# Altium footprint library con-ptr500.PCBLIB: 34 footprints (part 2 of 3)
Each footprint in its own frame and in the unit in brackets; x right, y up, seen from the top. Pads: shape width x height; smd on the part's side, far side on the other; paste and mask are expansions set on the pad; w line width, h text height; cw(c..) or ccw(c..) is an arc to the next point about the centre after c.
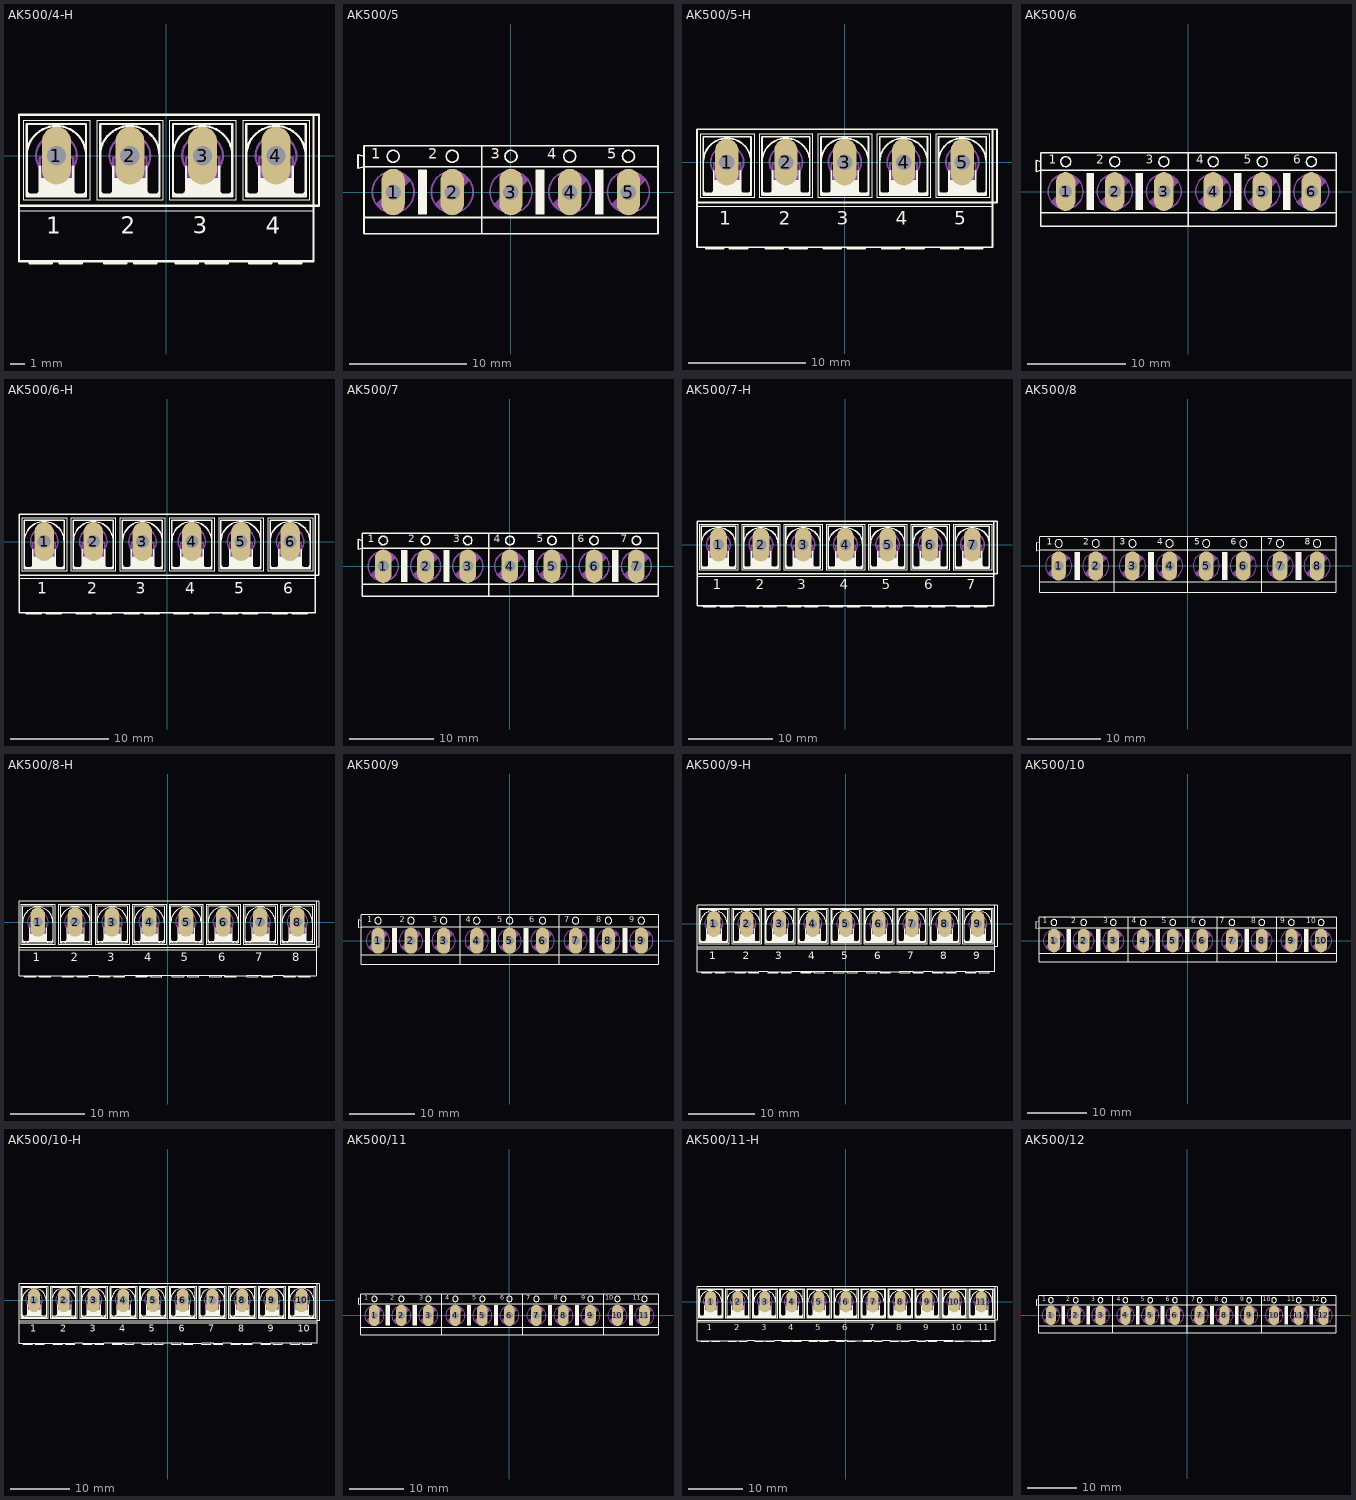
[diagram p1: the footprints below, top view; thin cyan lines are the x and y axes]

## AK500/4-H [mil]
pads (4):
  oval 78x156 hole 52: 1(-296,0) 2(-98,0) 3(98,0) 4(296,0)
Top Overlay:
  rectangle: -341,-105 -251,-60
  rectangle: -143,-105 -53,-60
  rectangle: 53,-105 143,-60
  rectangle: 251,-105 341,-60
  lines w2: -397,-150 397,-150 ; -386,-120 -386,95 -206,95 -206,-120 -386,-120 ; -188,-120 -8,-120 -8,95 -188,95 -188,-120 ; 8,-120 8,95 188,95 188,-120 8,-120 ; 206,-120 206,95 386,95 386,-120 206,-120
  lines w6: -376,-95 ccw(c-366,-95) -366,-105 -226,-105 ccw(c-226,-95) -216,-95 ; -376,0 cw(c-296,0) -216,0 ; -351,-105 ccw(c-351,-95) -341,-95 -341,-30 ; -251,-30 -251,-95 ccw(c-241,-95) -241,-105 ; -178,-95 ccw(c-168,-95) -168,-105 -28,-105 ccw(c-28,-95) -18,-95 ; -178,0 cw(c-98,0) -18,0 ; -153,-105 ccw(c-153,-95) -143,-95 -143,-30 ; -53,-30 -53,-95 ccw(c-43,-95) -43,-105 ; 18,-95 ccw(c28,-95) 28,-105 168,-105 ccw(c168,-95) 178,-95 ; 18,0 cw(c98,0) 178,0 ; 43,-105 ccw(c43,-95) 53,-95 53,-30 ; 143,-30 143,-95 ccw(c153,-95) 153,-105 ; 216,-95 ccw(c226,-95) 226,-105 366,-105 ccw(c366,-95) 376,-95 ; 216,0 cw(c296,0) 376,0 ; 241,-105 ccw(c241,-95) 251,-95 251,-30 ; 341,-30 341,-95 ccw(c351,-95) 351,-105 ; -397,-135 397,-135 ; -397,-135 -397,110 397,110 ; -397,-135 -397,-150 -397,-285 -368,-285 ; -368,-285 -368,-290 -308,-290 -308,-285 ; -368,-285 -308,-285 ; -308,-285 -288,-285 ; -288,-285 -228,-285 ; -288,-285 -288,-290 -228,-290 -228,-285 ; -228,-285 -167,-285 ; -167,-285 -167,-290 -107,-290 -107,-285 ; -167,-285 -107,-285 ; -107,-285 -87,-285 ; -87,-285 -87,-290 -27,-290 -27,-285 ; -87,-285 -27,-285 ; -27,-285 26,-285 ; 26,-285 26,-290 86,-290 86,-285 ; 26,-285 86,-285 ; 86,-285 106,-285 ; 106,-285 106,-290 166,-290 166,-285 ; 106,-285 166,-285 ; 166,-285 224,-285 ; 224,-285 224,-290 284,-290 284,-285 ; 224,-285 284,-285 ; 284,-285 304,-285 ; 304,-285 304,-290 364,-290 364,-285 ; 304,-285 364,-285 ; 364,-285 397,-285 397,-150 397,-135 ; 397,-135 397,110 ; 397,-135 412,-135 412,110 397,110 ; -376,-110 -216,-110 -216,85 -376,85 -376,-110 ; -178,-110 -178,85 -18,85 -18,-110 -178,-110 ; 18,-110 178,-110 178,85 18,85 18,-110 ; 216,-110 376,-110 376,85 216,85 216,-110
  text "1" at -323,-225 h77.5
  text "2" at -122,-225 h77.5
  text "3" at 71,-225 h77.5
  text "4" at 269,-225 h77.5
Mechanical 16:
  circle w6: c-296,0 r55
  circle w6: c-98,0 r55
  circle w6: c98,0 r55
  circle w6: c296,0 r55
  rectangle: -341,-60 -251,-30
  rectangle: -143,-60 -53,-30
  rectangle: 53,-60 143,-30
  rectangle: 251,-60 341,-30
  lines w6: -341,-30 -341,-5 -251,-5 -251,-30 -341,-30 ; -143,-30 -143,-5 -53,-5 -53,-30 -143,-30 ; 53,-30 53,-5 143,-5 143,-30 53,-30 ; 251,-30 251,-5 341,-5 341,-30 251,-30

## AK500/5 [mil]
pads (5):
  oval 78x156 hole 52: 1(-395,0) 2(-197,0) 3(0,0) 4(197,0) 5(394,0)
Top Overlay:
  circle w6: c-197,120 r20
  circle w6: c-395,120 r20
  circle w6: c197,120 r20
  circle w6: c0,120 r20
  circle w6: c394,120 r20
  rectangle: -311,-75 -281,75
  rectangle: 83,-75 113,75
  rectangle: 281,-75 311,75
  lines w6: -493,-85 -493,-140 -98,-140 ; -493,-85 -98,-85 ; -493,-85 -493,85 ; -493,85 -513,80 -513,125 -493,120 ; -493,85 -493,120 ; -493,85 -98,85 ; -493,120 -493,155 -98,155 ; -98,-140 -98,-85 ; -98,-140 493,-140 493,-85 ; -98,-85 493,-85 ; -98,-85 -98,85 ; -98,85 -98,155 ; -98,85 493,85 ; -98,155 493,155 493,85 ; 493,-85 493,85
  text "1" at -468,100 h60.45
  text "2" at -278,100 h60.45
  text "3" at -68,100 h60.45
  text "4" at 122,100 h60.45
  text "5" at 322,100 h60.45
Mechanical 16:
  circle w6: c-197,0 r70
  circle w6: c-395,0 r70
  circle w6: c197,0 r70
  circle w6: c0,0 r70
  circle w6: c394,0 r70
  lines w6: -450,-40 -355,55 -340,40 -435,-55 -450,-40 ; -252,-40 -157,55 -142,40 -237,-55 -252,-40 ; -55,-40 40,55 55,40 -40,-55 -55,-40 ; 142,-40 237,55 252,40 157,-55 142,-40 ; 339,-40 434,55 449,40 354,-55 339,-40
  lines w24: -435,-40 -355,40 ; -237,-40 -157,40 ; -40,-40 40,40 ; 157,-40 237,40 ; 354,-40 434,40

## AK500/5-H [mil]
pads (5):
  oval 78x156 hole 52: 1(-395,0) 2(-197,0) 3(0,0) 4(197,0) 5(394,0)
Top Overlay:
  rectangle: -439,-105 -349,-60
  rectangle: -242,-105 -152,-60
  rectangle: -45,-105 45,-60
  rectangle: 152,-105 242,-60
  rectangle: 349,-105 439,-60
  lines w2: -495,-150 495,-150 ; -484,-120 -484,95 -304,95 -304,-120 -484,-120 ; -287,-120 -107,-120 -107,95 -287,95 -287,-120 ; -90,-120 -90,95 90,95 90,-120 -90,-120 ; 107,-120 107,95 287,95 287,-120 107,-120 ; 304,-120 304,95 484,95 484,-120 304,-120
  lines w6: -474,-95 ccw(c-464,-95) -464,-105 -324,-105 ccw(c-324,-95) -314,-95 ; -474,0 cw(c-394,0) -314,0 ; -449,-105 ccw(c-449,-95) -439,-95 -439,-30 ; -349,-30 -349,-95 ccw(c-339,-95) -339,-105 ; -277,-95 ccw(c-267,-95) -267,-105 -127,-105 ccw(c-127,-95) -117,-95 ; -277,0 cw(c-197,0) -117,0 ; -252,-105 ccw(c-252,-95) -242,-95 -242,-30 ; -152,-30 -152,-95 ccw(c-142,-95) -142,-105 ; -80,-95 ccw(c-70,-95) -70,-105 70,-105 ccw(c70,-95) 80,-95 ; -80,0 cw(c0,0) 80,0 ; -55,-105 ccw(c-55,-95) -45,-95 -45,-30 ; 45,-30 45,-95 ccw(c55,-95) 55,-105 ; 72,-285 125,-285 ; 117,-95 ccw(c127,-95) 127,-105 267,-105 ccw(c267,-95) 277,-95 ; 117,0 cw(c197,0) 277,0 ; 142,-105 ccw(c142,-95) 152,-95 152,-30 ; 242,-30 242,-95 ccw(c252,-95) 252,-105 ; 314,-95 ccw(c324,-95) 324,-105 464,-105 ccw(c464,-95) 474,-95 ; 314,0 cw(c394,0) 474,0 ; 339,-105 ccw(c339,-95) 349,-95 349,-30 ; 439,-30 439,-95 ccw(c449,-95) 449,-105 ; -495,-135 495,-135 ; -495,-135 -495,110 495,110 ; -495,-135 -495,-150 -495,-285 -466,-285 ; -466,-285 -466,-290 -406,-290 -406,-285 ; -466,-285 -406,-285 ; -406,-285 -386,-285 ; -386,-285 -326,-285 ; -386,-285 -386,-290 -326,-290 -326,-285 ; -326,-285 -266,-285 ; -266,-285 -266,-290 -206,-290 -206,-285 ; -266,-285 -206,-285 ; -206,-285 -186,-285 ; -186,-285 -186,-290 -126,-290 -126,-285 ; -186,-285 -126,-285 ; -126,-285 -72,-285 ; -72,-285 -72,-290 -12,-290 -12,-285 ; -72,-285 -12,-285 ; -12,-285 8,-285 ; 8,-285 8,-290 68,-290 68,-285 ; 8,-285 68,-285 ; 68,-285 205,-285 ; 125,-285 125,-290 185,-290 185,-285 ; 125,-285 185,-285 ; 185,-285 205,-285 ; 205,-285 205,-290 265,-290 265,-285 ; 205,-285 265,-285 ; 265,-285 322,-285 ; 322,-285 322,-290 382,-290 382,-285 ; 322,-285 382,-285 ; 382,-285 402,-285 ; 402,-285 402,-290 462,-290 462,-285 ; 402,-285 462,-285 ; 462,-285 495,-285 495,-150 495,-135 ; 495,-135 495,110 ; 495,-135 510,-135 510,110 495,110 ; -474,-110 -314,-110 -314,85 -474,85 -474,-110 ; -277,-110 -277,85 -117,85 -117,-110 -277,-110 ; -80,-110 80,-110 80,85 -80,85 -80,-110 ; 117,-110 277,-110 277,85 117,85 117,-110 ; 314,-110 474,-110 474,85 314,85 314,-110
  text "1" at -421,-225 h77.5
  text "2" at -221,-225 h77.5
  text "3" at -27,-225 h77.5
  text "4" at 170,-225 h77.5
  text "5" at 367,-225 h77.5
Mechanical 16:
  circle w6: c-394,0 r55
  circle w6: c-197,0 r55
  circle w6: c0,0 r55
  circle w6: c197,0 r55
  circle w6: c394,0 r55
  rectangle: -439,-60 -349,-30
  rectangle: -242,-60 -152,-30
  rectangle: -45,-60 45,-30
  rectangle: 152,-60 242,-30
  rectangle: 349,-60 439,-30
  lines w6: -439,-30 -439,-5 -349,-5 -349,-30 -439,-30 ; -242,-30 -242,-5 -152,-5 -152,-30 -242,-30 ; -45,-30 -45,-5 45,-5 45,-30 -45,-30 ; 152,-30 152,-5 242,-5 242,-30 152,-30 ; 349,-30 349,-5 439,-5 439,-30 349,-30

## AK500/6 [mil]
pads (6):
  oval 78x156 hole 52: 1(-493,0) 2(-296,0) 3(-99,0) 4(99,0) 5(296,0) 6(493,0)
Top Overlay:
  circle w6: c-296,120 r20
  circle w6: c-493,120 r20
  circle w6: c-99,120 r20
  circle w6: c296,120 r20
  circle w6: c99,120 r20
  circle w6: c493,120 r20
  rectangle: -410,-75 -380,75
  rectangle: -212,-75 -182,75
  rectangle: 182,-75 212,75
  rectangle: 380,-75 410,75
  lines w6: -592,-85 -592,-140 0,-140 ; -592,-85 0,-85 ; -592,-85 -592,85 ; -592,85 -612,80 -612,125 -592,120 ; -592,85 -592,120 ; -592,85 0,85 ; -592,120 -592,155 0,155 ; 0,-140 0,-85 ; 0,-140 592,-140 592,-85 ; 0,-85 592,-85 ; 0,-85 0,85 ; 0,85 0,155 ; 0,85 592,85 ; 0,155 592,155 592,85 ; 592,-85 592,85
  text "1" at -561,100 h60.45
  text "2" at -371,100 h60.45
  text "3" at -171,100 h60.45
  text "4" at 31,100 h60.45
  text "5" at 221,100 h60.45
  text "6" at 421,100 h60.45
Mechanical 16:
  circle w6: c-296,0 r70
  circle w6: c-493,0 r70
  circle w6: c-99,0 r70
  circle w6: c296,0 r70
  circle w6: c99,0 r70
  circle w6: c493,0 r70
  lines w6: -548,-40 -453,55 -438,40 -533,-55 -548,-40 ; -351,-40 -256,55 -241,40 -336,-55 -351,-40 ; -154,-40 -59,55 -44,40 -139,-55 -154,-40 ; 44,-40 139,55 154,40 59,-55 44,-40 ; 241,-40 336,55 351,40 256,-55 241,-40 ; 438,-40 533,55 548,40 453,-55 438,-40
  lines w24: -533,-40 -453,40 ; -336,-40 -256,40 ; -139,-40 -59,40 ; 59,-40 139,40 ; 256,-40 336,40 ; 453,-40 533,40

## AK500/6-H [mil]
pads (6):
  oval 78x156 hole 52: 1(-493,0) 2(-296,0) 3(-99,0) 4(99,0) 5(296,0) 6(493,0)
Top Overlay:
  drawing of 176 lines, arcs and shapes, not listed
  text "1" at -520,-225 h77.5
  text "2" at -320,-225 h77.5
  text "3" at -126,-225 h77.5
  text "4" at 72,-225 h77.5
  text "5" at 269,-225 h77.5
  text "6" at 466,-225 h77.5
Mechanical 16:
  circle w6: c-493,0 r55
  circle w6: c-296,0 r55
  circle w6: c-99,0 r55
  circle w6: c99,0 r55
  circle w6: c296,0 r55
  circle w6: c493,0 r55
  rectangle: -538,-60 -448,-30
  rectangle: -341,-60 -251,-30
  rectangle: -144,-60 -54,-30
  rectangle: 54,-60 144,-30
  rectangle: 251,-60 341,-30
  rectangle: 448,-60 538,-30
  lines w6: -538,-30 -538,-5 -448,-5 -448,-30 -538,-30 ; -341,-30 -341,-5 -251,-5 -251,-30 -341,-30 ; -144,-30 -144,-5 -54,-5 -54,-30 -144,-30 ; 54,-30 54,-5 144,-5 144,-30 54,-30 ; 251,-30 251,-5 341,-5 341,-30 251,-30 ; 448,-30 448,-5 538,-5 538,-30 448,-30

## AK500/7 [mil]
pads (7):
  oval 78x156 hole 52: 1(-592,0) 2(-394,0) 3(-197,0) 4(0,0) 5(197,0) 6(394,0) 7(592,0)
Top Overlay:
  circle w6: c-394,120 r20
  circle w6: c-592,120 r20
  circle w6: c0,120 r20
  circle w6: c-197,120 r20
  circle w6: c197,120 r20
  circle w6: c592,120 r20
  circle w6: c394,120 r20
  rectangle: -508,-75 -478,75
  rectangle: -311,-75 -281,75
  rectangle: 84,-75 114,75
  rectangle: 478,-75 508,75
  lines w6: -690,-85 -690,-140 -98,-140 ; -690,-85 -98,-85 ; -690,-85 -690,85 ; -690,85 -710,80 -710,125 -690,120 ; -690,85 -690,120 ; -690,85 -98,85 ; -690,120 -690,155 -98,155 ; -98,-140 -98,-85 ; -98,-140 295,-140 ; -98,-85 295,-85 ; -98,-85 -98,85 ; -98,85 -98,155 ; -98,85 295,85 ; -98,155 295,155 ; 295,-140 295,-85 ; 295,-140 693,-140 693,-85 ; 295,-85 693,-85 ; 295,-85 295,85 ; 295,85 295,155 ; 295,85 693,85 ; 295,155 693,155 693,85 ; 693,-85 693,85
  text "1" at -665,100 h60.45
  text "2" at -475,100 h60.45
  text "3" at -265,100 h60.45
  text "4" at -75,100 h60.45
  text "5" at 125,100 h60.45
  text "6" at 318,100 h60.45
  text "7" at 518,100 h60.45
Mechanical 16:
  circle w6: c-394,0 r70
  circle w6: c-592,0 r70
  circle w6: c0,0 r70
  circle w6: c-197,0 r70
  circle w6: c197,0 r70
  circle w6: c592,0 r70
  circle w6: c394,0 r70
  lines w6: -647,-40 -552,55 -537,40 -632,-55 -647,-40 ; -449,-40 -354,55 -339,40 -434,-55 -449,-40 ; -252,-40 -157,55 -142,40 -237,-55 -252,-40 ; -55,-40 40,55 55,40 -40,-55 -55,-40 ; 142,-40 237,55 252,40 157,-55 142,-40 ; 339,-40 434,55 449,40 354,-55 339,-40 ; 537,-40 632,55 647,40 552,-55 537,-40
  lines w24: -632,-40 -552,40 ; -434,-40 -354,40 ; -237,-40 -157,40 ; -40,-40 40,40 ; 157,-40 237,40 ; 354,-40 434,40 ; 552,-40 632,40

## AK500/7-H [mil]
pads (7):
  oval 78x156 hole 52: 1(-592,0) 2(-394,0) 3(-197,0) 4(0,0) 5(197,0) 6(394,0) 7(592,0)
Top Overlay:
  drawing of 203 lines, arcs and shapes, not listed
  text "1" at -619,-225 h77.5
  text "2" at -418,-225 h77.5
  text "3" at -224,-225 h77.5
  text "4" at -27,-225 h77.5
  text "5" at 170,-225 h77.5
  text "6" at 368,-225 h77.5
  text "7" at 565,-225 h77.5
Mechanical 16:
  circle w6: c-592,0 r55
  circle w6: c-394,0 r55
  circle w6: c-197,0 r55
  circle w6: c0,0 r55
  circle w6: c197,0 r55
  circle w6: c395,0 r55
  circle w6: c592,0 r55
  rectangle: -637,-60 -547,-30
  rectangle: -439,-60 -349,-30
  rectangle: -242,-60 -152,-30
  rectangle: -45,-60 45,-30
  rectangle: 152,-60 242,-30
  rectangle: 350,-60 440,-30
  rectangle: 547,-60 637,-30
  lines w6: -637,-30 -637,-5 -547,-5 -547,-30 -637,-30 ; -439,-30 -439,-5 -349,-5 -349,-30 -439,-30 ; -242,-30 -242,-5 -152,-5 -152,-30 -242,-30 ; -45,-30 -45,-5 45,-5 45,-30 -45,-30 ; 152,-30 152,-5 242,-5 242,-30 152,-30 ; 350,-30 350,-5 440,-5 440,-30 350,-30 ; 547,-30 547,-5 637,-5 637,-30 547,-30

## AK500/8 [mil]
pads (8):
  oval 78x156 hole 52: 1(-690,0) 2(-492,0) 3(-296,0) 4(-98,0) 5(98,0) 6(296,0) 7(492,0) 8(690,0)
Top Overlay:
  circle w6: c-492,120 r20
  circle w6: c-690,120 r20
  circle w6: c-98,120 r20
  circle w6: c-296,120 r20
  circle w6: c296,120 r20
  circle w6: c98,120 r20
  circle w6: c690,120 r20
  circle w6: c492,120 r20
  rectangle: -606,-75 -576,75
  rectangle: -212,-75 -182,75
  rectangle: 182,-75 212,75
  rectangle: 576,-75 606,75
  lines w6: -791,-85 -791,-140 -394,-140 ; -791,-85 -394,-85 ; -791,-85 -791,85 ; -791,85 -811,80 -811,125 -791,120 ; -791,85 -791,120 ; -791,85 -394,85 ; -791,120 -791,155 -394,155 ; -394,-140 -394,-85 ; -394,-140 0,-140 ; -394,-85 0,-85 ; -394,-85 -394,85 ; -394,85 -394,155 ; -394,85 0,85 ; -394,155 0,155 ; 0,-140 0,-85 ; 0,-140 394,-140 ; 0,-85 0,85 ; 0,-85 394,-85 ; 0,85 0,155 ; 0,85 394,85 ; 0,155 394,155 ; 394,-140 394,-85 ; 394,-140 791,-140 791,-85 ; 394,-85 791,-85 ; 394,-85 394,85 ; 394,85 394,155 ; 394,85 791,85 ; 394,155 791,155 791,85 ; 791,-85 791,85
  text "1" at -754,100 h60.45
  text "2" at -559,100 h60.45
  text "3" at -364,100 h60.45
  text "4" at -164,100 h60.45
  text "5" at 34,100 h60.45
  text "6" at 229,100 h60.45
  text "7" at 424,100 h60.45
  text "8" at 624,100 h60.45
Mechanical 16:
  circle w6: c-492,0 r70
  circle w6: c-690,0 r70
  circle w6: c-98,0 r70
  circle w6: c-296,0 r70
  circle w6: c296,0 r70
  circle w6: c98,0 r70
  circle w6: c690,0 r70
  circle w6: c492,0 r70
  lines w6: -745,-40 -650,55 -635,40 -730,-55 -745,-40 ; -547,-40 -452,55 -437,40 -532,-55 -547,-40 ; -351,-40 -256,55 -241,40 -336,-55 -351,-40 ; -153,-40 -58,55 -43,40 -138,-55 -153,-40 ; 43,-40 138,55 153,40 58,-55 43,-40 ; 241,-40 336,55 351,40 256,-55 241,-40 ; 437,-40 532,55 547,40 452,-55 437,-40 ; 635,-40 730,55 745,40 650,-55 635,-40
  lines w24: -730,-40 -650,40 ; -532,-40 -452,40 ; -336,-40 -256,40 ; -138,-40 -58,40 ; 58,-40 138,40 ; 256,-40 336,40 ; 452,-40 532,40 ; 650,-40 730,40

## AK500/8-H [mil]
pads (8):
  oval 78x156 hole 52: 1(-690,0) 2(-492,0) 3(-296,0) 4(-98,0) 5(98,0) 6(296,0) 7(492,0) 8(690,0)
Top Overlay:
  drawing of 230 lines, arcs and shapes, not listed
  text "1" at -717,-225 h77.5
  text "2" at -516,-225 h77.5
  text "3" at -322,-225 h77.5
  text "4" at -125,-225 h77.5
  text "5" at 71,-225 h77.5
  text "6" at 269,-225 h77.5
  text "7" at 465,-225 h77.5
  text "8" at 663,-225 h77.5
Mechanical 16:
  circle w6: c-690,0 r55
  circle w6: c-492,0 r55
  circle w6: c-295,0 r55
  circle w6: c-98,0 r55
  circle w6: c98,0 r55
  circle w6: c296,0 r55
  circle w6: c492,0 r55
  circle w6: c690,0 r55
  rectangle: -735,-60 -645,-30
  rectangle: -537,-60 -447,-30
  rectangle: -340,-60 -250,-30
  rectangle: -143,-60 -53,-30
  rectangle: 53,-60 143,-30
  rectangle: 251,-60 341,-30
  rectangle: 447,-60 537,-30
  rectangle: 645,-60 735,-30
  lines w6: -735,-30 -735,-5 -645,-5 -645,-30 -735,-30 ; -537,-30 -537,-5 -447,-5 -447,-30 -537,-30 ; -340,-30 -340,-5 -250,-5 -250,-30 -340,-30 ; -143,-30 -143,-5 -53,-5 -53,-30 -143,-30 ; 53,-30 53,-5 143,-5 143,-30 53,-30 ; 251,-30 251,-5 341,-5 341,-30 251,-30 ; 447,-30 447,-5 537,-5 537,-30 447,-30 ; 645,-30 645,-5 735,-5 735,-30 645,-30

## AK500/9 [mil]
pads (9):
  oval 78x156 hole 52: 1(-788,0) 2(-591,0) 3(-395,0) 4(-197,0) 5(0,0) 6(197,0) 7(395,0) 8(591,0) 9(788,0)
Top Overlay:
  circle w6: c-591,120 r20
  circle w6: c-788,120 r20
  circle w6: c-197,120 r20
  circle w6: c-395,120 r20
  circle w6: c197,120 r20
  circle w6: c0,120 r20
  circle w6: c591,120 r20
  circle w6: c395,120 r20
  circle w6: c788,120 r20
  rectangle: -704,-75 -674,75
  rectangle: -507,-75 -477,75
  rectangle: -112,-75 -82,75
  rectangle: 478,-75 508,75
  rectangle: 676,-75 706,75
  rectangle: 84,-75 114,75
  lines w6: -888,-85 -888,-140 -295,-140 ; -888,-85 -295,-85 ; -888,-85 -888,85 ; -888,85 -908,80 -908,125 -888,120 ; -888,85 -888,120 ; -888,85 -295,85 ; -888,120 -888,155 -295,155 ; -295,-140 -295,-85 ; -295,-140 297,-140 ; -295,-85 -295,85 ; -295,-85 297,-85 ; -295,85 -295,155 ; -295,85 297,85 ; -295,155 297,155 ; 297,-140 297,-85 ; 297,-140 888,-140 888,-85 ; 297,-85 888,-85 ; 297,-85 297,85 ; 297,85 297,155 ; 297,85 888,85 ; 297,155 888,155 888,85 ; 888,-85 888,85
  text "1" at -852,100 h60.45
  text "2" at -658,100 h60.45
  text "3" at -463,100 h60.45
  text "4" at -263,100 h60.45
  text "5" at -73,100 h60.45
  text "6" at 117,100 h60.45
  text "7" at 327,100 h60.45
  text "8" at 517,100 h60.45
  text "9" at 716,100 h60.45
Mechanical 16:
  circle w6: c-591,0 r70
  circle w6: c-788,0 r70
  circle w6: c-197,0 r70
  circle w6: c-395,0 r70
  circle w6: c197,0 r70
  circle w6: c0,0 r70
  circle w6: c591,0 r70
  circle w6: c395,0 r70
  circle w6: c788,0 r70
  lines w6: -843,-40 -748,55 -733,40 -828,-55 -843,-40 ; -646,-40 -551,55 -536,40 -631,-55 -646,-40 ; -450,-40 -355,55 -340,40 -435,-55 -450,-40 ; -252,-40 -157,55 -142,40 -237,-55 -252,-40 ; -55,-40 40,55 55,40 -40,-55 -55,-40 ; 142,-40 237,55 252,40 157,-55 142,-40 ; 340,-40 435,55 450,40 355,-55 340,-40 ; 536,-40 631,55 646,40 551,-55 536,-40 ; 733,-40 829,55 843,40 748,-55 733,-40
  lines w24: -828,-40 -748,40 ; -631,-40 -551,40 ; -435,-40 -355,40 ; -237,-40 -157,40 ; -40,-40 40,40 ; 157,-40 237,40 ; 355,-40 435,40 ; 551,-40 631,40 ; 748,-40 828,40

## AK500/9-H [mil]
pads (9):
  oval 78x156 hole 52: 1(-788,0) 2(-591,0) 3(-395,0) 4(-197,0) 5(0,0) 6(197,0) 7(395,0) 8(591,0) 9(788,0)
Top Overlay:
  drawing of 257 lines, arcs and shapes, not listed
  text "1" at -815,-225 h77.5
  text "2" at -615,-225 h77.5
  text "3" at -421,-225 h77.5
  text "4" at -224,-225 h77.5
  text "5" at -27,-225 h77.5
  text "6" at 170,-225 h77.5
  text "7" at 367,-225 h77.5
  text "8" at 564,-225 h77.5
  text "9" at 761,-225 h77.5
Mechanical 16:
  circle w6: c-788,0 r55
  circle w6: c-591,0 r55
  circle w6: c-394,0 r55
  circle w6: c-197,0 r55
  circle w6: c0,0 r55
  circle w6: c197,0 r55
  circle w6: c394,0 r55
  circle w6: c591,0 r55
  circle w6: c788,0 r55
  rectangle: -833,-60 -743,-30
  rectangle: -636,-60 -546,-30
  rectangle: -439,-60 -349,-30
  rectangle: -242,-60 -152,-30
  rectangle: -45,-60 45,-30
  rectangle: 152,-60 242,-30
  rectangle: 349,-60 439,-30
  rectangle: 546,-60 636,-30
  rectangle: 743,-60 833,-30
  lines w6: -833,-30 -833,-5 -743,-5 -743,-30 -833,-30 ; -636,-30 -636,-5 -546,-5 -546,-30 -636,-30 ; -439,-30 -439,-5 -349,-5 -349,-30 -439,-30 ; -242,-30 -242,-5 -152,-5 -152,-30 -242,-30 ; -45,-30 -45,-5 45,-5 45,-30 -45,-30 ; 152,-30 152,-5 242,-5 242,-30 152,-30 ; 349,-30 349,-5 439,-5 439,-30 349,-30 ; 546,-30 546,-5 636,-5 636,-30 546,-30 ; 743,-30 743,-5 833,-5 833,-30 743,-30

## AK500/10 [mil]
pads (10):
  oval 78x156 hole 52: 1(-886,0) 2(-689,0) 3(-492,0) 4(-295,0) 5(-98,0) 6(98,0) 7(295,0) 8(492,0) 9(689,0) 10(886,0)
Top Overlay:
  circle w6: c-689,120 r20
  circle w6: c-886,120 r20
  circle w6: c-295,120 r20
  circle w6: c-492,120 r20
  circle w6: c-98,120 r20
  circle w6: c295,120 r20
  circle w6: c98,120 r20
  circle w6: c689,120 r20
  circle w6: c492,120 r20
  circle w6: c886,120 r20
  rectangle: -803,-75 -773,75
  rectangle: -606,-75 -576,75
  rectangle: -211,-75 -181,75
  rectangle: -16,-75 14,75
  rectangle: 378,-75 408,75
  rectangle: 773,-75 803,75
  lines w6: -985,-85 -985,-140 -393,-140 ; -985,-85 -393,-85 ; -985,-85 -985,85 ; -985,85 -1005,80 -1005,125 -985,120 ; -985,85 -985,120 ; -985,85 -393,85 ; -985,120 -985,155 -393,155 ; -393,-140 -393,-85 ; -393,-140 197,-140 ; -393,-85 197,-85 ; -393,-85 -393,85 ; -393,85 -393,155 ; -393,85 197,85 ; -393,155 197,155 ; 197,-140 197,-85 ; 197,-140 591,-140 ; 197,-85 591,-85 ; 197,-85 197,85 ; 197,85 197,155 ; 197,85 591,85 ; 197,155 591,155 ; 591,-140 591,-85 ; 591,-140 985,-140 985,-85 ; 591,-85 985,-85 ; 591,-85 591,85 ; 591,85 591,155 ; 591,85 985,85 ; 591,155 985,155 985,85 ; 985,-85 985,85
  text "1" at -960,100 h60.45
  text "2" at -770,100 h60.45
  text "3" at -560,100 h60.45
  text "4" at -370,100 h60.45
  text "5" at -170,100 h60.45
  text "6" at 24,100 h60.45
  text "7" at 214,100 h60.45
  text "8" at 424,100 h60.45
  text "9" at 614,100 h60.45
  text "10" at 789,100 h60.45
Mechanical 16:
  circle w6: c-689,0 r70
  circle w6: c-886,0 r70
  circle w6: c-295,0 r70
  circle w6: c-492,0 r70
  circle w6: c-98,0 r70
  circle w6: c295,0 r70
  circle w6: c98,0 r70
  circle w6: c689,0 r70
  circle w6: c492,0 r70
  circle w6: c886,0 r70
  lines w6: -941,-40 -846,55 -831,40 -926,-55 -941,-40 ; -744,-40 -649,55 -634,40 -729,-55 -744,-40 ; -547,-40 -452,55 -437,40 -532,-55 -547,-40 ; -350,-40 -255,55 -240,40 -335,-55 -350,-40 ; -153,-40 -58,55 -43,40 -138,-55 -153,-40 ; 43,-40 138,55 153,40 58,-55 43,-40 ; 240,-40 335,55 350,40 255,-55 240,-40 ; 437,-40 532,55 547,40 452,-55 437,-40 ; 634,-40 729,55 744,40 649,-55 634,-40 ; 831,-40 926,55 941,40 846,-55 831,-40
  lines w24: -926,-40 -846,40 ; -729,-40 -649,40 ; -532,-40 -452,40 ; -335,-40 -255,40 ; -138,-40 -58,40 ; 58,-40 138,40 ; 255,-40 335,40 ; 452,-40 532,40 ; 649,-40 729,40 ; 846,-40 926,40

## AK500/10-H [mil]
pads (10):
  oval 78x156 hole 52: 1(-886,0) 2(-689,0) 3(-492,0) 4(-295,0) 5(-98,0) 6(98,0) 7(295,0) 8(492,0) 9(689,0) 10(886,0)
Top Overlay:
  drawing of 284 lines, arcs and shapes, not listed
  text "1" at -913,-225 h77.5
  text "2" at -713,-225 h77.5
  text "3" at -519,-225 h77.5
  text "4" at -322,-225 h77.5
  text "5" at -125,-225 h77.5
  text "6" at 71,-225 h77.5
  text "7" at 268,-225 h77.5
  text "8" at 465,-225 h77.5
  text "9" at 662,-225 h77.5
  text "10" at 859,-225 h77.5
Mechanical 16:
  circle w6: c-886,0 r55
  circle w6: c-689,0 r55
  circle w6: c-492,0 r55
  circle w6: c-295,0 r55
  circle w6: c-98,0 r55
  circle w6: c98,0 r55
  circle w6: c295,0 r55
  circle w6: c492,0 r55
  circle w6: c689,0 r55
  circle w6: c886,0 r55
  rectangle: -931,-60 -841,-30
  rectangle: -734,-60 -644,-30
  rectangle: -537,-60 -447,-30
  rectangle: -340,-60 -250,-30
  rectangle: -143,-60 -53,-30
  rectangle: 53,-60 143,-30
  rectangle: 250,-60 340,-30
  rectangle: 447,-60 537,-30
  rectangle: 644,-60 734,-30
  rectangle: 841,-60 931,-30
  lines w6: -931,-30 -931,-5 -841,-5 -841,-30 -931,-30 ; -734,-30 -734,-5 -644,-5 -644,-30 -734,-30 ; -537,-30 -537,-5 -447,-5 -447,-30 -537,-30 ; -340,-30 -340,-5 -250,-5 -250,-30 -340,-30 ; -143,-30 -143,-5 -53,-5 -53,-30 -143,-30 ; 53,-30 53,-5 143,-5 143,-30 53,-30 ; 250,-30 250,-5 340,-5 340,-30 250,-30 ; 447,-30 447,-5 537,-5 537,-30 447,-30 ; 644,-30 644,-5 734,-5 734,-30 644,-30 ; 841,-30 841,-5 931,-5 931,-30 841,-30

## AK500/11 [mil]
pads (11):
  oval 78x156 hole 52: 1(-985,0) 2(-788,0) 3(-591,0) 4(-394,0) 5(-197,0) 6(0,0) 7(197,0) 8(394,0) 9(591,0) 10(788,0) 11(985,0)
Top Overlay:
  circle w6: c-788,120 r20
  circle w6: c-985,120 r20
  circle w6: c-394,120 r20
  circle w6: c-591,120 r20
  circle w6: c-197,120 r20
  circle w6: c197,120 r20
  circle w6: c0,120 r20
  circle w6: c394,120 r20
  circle w6: c788,120 r20
  circle w6: c591,120 r20
  circle w6: c985,120 r20
  rectangle: -902,-75 -872,75
  rectangle: -705,-75 -675,75
  rectangle: -310,-75 -280,75
  rectangle: -113,-75 -83,75
  rectangle: 281,-75 311,75
  rectangle: 478,-75 508,75
  rectangle: 873,-75 903,75
  lines w6: -1084,-85 -1084,-140 -492,-140 ; -1084,-85 -492,-85 ; -1084,-85 -1084,85 ; -1084,85 -1104,80 -1104,125 -1084,120 ; -1084,85 -1084,120 ; -1084,85 -492,85 ; -1084,120 -1084,155 -492,155 ; -492,-140 -492,-85 ; -492,-140 97,-140 ; -492,-85 -492,85 ; -492,-85 97,-85 ; -492,85 -492,155 ; -492,85 97,85 ; -492,155 97,155 ; 97,-140 97,-85 ; 97,-140 690,-140 ; 97,-85 690,-85 ; 97,-85 97,85 ; 97,85 97,155 ; 97,85 690,85 ; 97,155 690,155 ; 690,-140 690,-85 ; 690,-140 1084,-140 1084,-85 ; 690,-85 1084,-85 ; 690,-85 690,85 ; 690,85 690,155 ; 690,85 1084,85 ; 690,155 1084,155 1084,85 ; 1084,-85 1084,85
  text "1" at -1059,100 h60.45
  text "2" at -869,100 h60.45
  text "3" at -659,100 h60.45
  text "4" at -469,100 h60.45
  text "5" at -269,100 h60.45
  text "6" at -68,100 h60.45
  text "7" at 122,100 h60.45
  text "8" at 322,100 h60.45
  text "9" at 523,100 h60.45
  text "10" at 699,100 h60.45
  text "11" at 899,100 h60.45
Mechanical 16:
  circle w6: c-788,0 r70
  circle w6: c-985,0 r70
  circle w6: c-394,0 r70
  circle w6: c-591,0 r70
  circle w6: c-197,0 r70
  circle w6: c197,0 r70
  circle w6: c0,0 r70
  circle w6: c394,0 r70
  circle w6: c788,0 r70
  circle w6: c591,0 r70
  circle w6: c985,0 r70
  lines w6: -1040,-40 -945,55 -930,40 -1025,-55 -1040,-40 ; -843,-40 -748,55 -733,40 -828,-55 -843,-40 ; -646,-40 -551,55 -536,40 -631,-55 -646,-40 ; -449,-40 -354,55 -339,40 -434,-55 -449,-40 ; -252,-40 -157,55 -142,40 -237,-55 -252,-40 ; -55,-40 40,55 55,40 -40,-55 -55,-40 ; 142,-40 237,55 252,40 157,-55 142,-40 ; 339,-40 434,55 449,40 354,-55 339,-40 ; 536,-40 631,55 646,40 551,-55 536,-40 ; 733,-40 828,55 843,40 748,-55 733,-40 ; 930,-40 1025,55 1040,40 945,-55 930,-40
  lines w24: -1025,-40 -945,40 ; -828,-40 -748,40 ; -631,-40 -551,40 ; -434,-40 -354,40 ; -237,-40 -157,40 ; -40,-40 40,40 ; 157,-40 237,40 ; 354,-40 434,40 ; 551,-40 631,40 ; 748,-40 828,40 ; 945,-40 1025,40

## AK500/11-H [mil]
pads (11):
  oval 78x156 hole 52: 1(-985,0) 2(-788,0) 3(-591,0) 4(-394,0) 5(-197,0) 6(0,0) 7(197,0) 8(394,0) 9(591,0) 10(788,0) 11(985,0)
Top Overlay:
  drawing of 311 lines, arcs and shapes, not listed
  text "1" at -1012,-225 h77.5
  text "2" at -812,-225 h77.5
  text "3" at -618,-225 h77.5
  text "4" at -421,-225 h77.5
  text "5" at -224,-225 h77.5
  text "6" at -27,-225 h77.5
  text "7" at 170,-225 h77.5
  text "8" at 367,-225 h77.5
  text "9" at 564,-225 h77.5
  text "10" at 761,-225 h77.5
  text "11" at 958,-225 h77.5
Mechanical 16:
  circle w6: c-985,0 r55
  circle w6: c-788,0 r55
  circle w6: c-591,0 r55
  circle w6: c-394,0 r55
  circle w6: c-197,0 r55
  circle w6: c0,0 r55
  circle w6: c197,0 r55
  circle w6: c394,0 r55
  circle w6: c591,0 r55
  circle w6: c788,0 r55
  circle w6: c985,0 r55
  rectangle: -1030,-60 -940,-30
  rectangle: -833,-60 -743,-30
  rectangle: -636,-60 -546,-30
  rectangle: -439,-60 -349,-30
  rectangle: -242,-60 -152,-30
  rectangle: -45,-60 45,-30
  rectangle: 152,-60 242,-30
  rectangle: 349,-60 439,-30
  rectangle: 546,-60 636,-30
  rectangle: 743,-60 833,-30
  rectangle: 940,-60 1030,-30
  lines w6: -1030,-30 -1030,-5 -940,-5 -940,-30 -1030,-30 ; -833,-30 -833,-5 -743,-5 -743,-30 -833,-30 ; -636,-30 -636,-5 -546,-5 -546,-30 -636,-30 ; -439,-30 -439,-5 -349,-5 -349,-30 -439,-30 ; -242,-30 -242,-5 -152,-5 -152,-30 -242,-30 ; -45,-30 -45,-5 45,-5 45,-30 -45,-30 ; 152,-30 152,-5 242,-5 242,-30 152,-30 ; 349,-30 349,-5 439,-5 439,-30 349,-30 ; 546,-30 546,-5 636,-5 636,-30 546,-30 ; 743,-30 743,-5 833,-5 833,-30 743,-30 ; 940,-30 940,-5 1030,-5 1030,-30 940,-30

## AK500/12 [mil]
pads (12):
  oval 78x156 hole 52: 1(-1084,0) 2(-887,0) 3(-690,0) 4(-492,0) 5(-295,0) 6(-98,0) 7(98,0) 8(295,0) 9(492,0) 10(690,0) 11(887,0) 12(1084,0)
Top Overlay:
  circle w6: c-887,120 r20
  circle w6: c-1084,120 r20
  circle w6: c-690,120 r20
  circle w6: c-295,120 r20
  circle w6: c-492,120 r20
  circle w6: c-98,120 r20
  circle w6: c295,120 r20
  circle w6: c98,120 r20
  circle w6: c492,120 r20
  circle w6: c887,120 r20
  circle w6: c690,120 r20
  circle w6: c1084,120 r20
  rectangle: -1001,-75 -971,75
  rectangle: -803,-75 -773,75
  rectangle: -409,-75 -379,75
  rectangle: -211,-75 -181,75
  rectangle: 181,-75 211,75
  rectangle: 379,-75 409,75
  rectangle: 773,-75 803,75
  rectangle: 971,-75 1001,75
  lines w6: -1183,-85 -1183,-140 -591,-140 ; -1183,-85 -591,-85 ; -1183,-85 -1183,85 ; -1183,85 -1203,80 -1203,125 -1183,120 ; -1183,85 -1183,120 ; -1183,85 -591,85 ; -1183,120 -1183,155 -591,155 ; -591,-140 -591,-85 ; -591,-140 0,-140 ; -591,-85 0,-85 ; -591,-85 -591,85 ; -591,85 -591,155 ; -591,85 0,85 ; -591,155 0,155 ; 0,-140 0,-85 ; 0,-140 591,-140 ; 0,-85 0,85 ; 0,-85 591,-85 ; 0,85 0,155 ; 0,85 591,85 ; 0,155 591,155 ; 591,-140 591,-85 ; 591,-140 1183,-140 1183,-85 ; 591,-85 1183,-85 ; 591,-85 591,85 ; 591,85 591,155 ; 591,85 1183,85 ; 591,155 1183,155 1183,85 ; 1183,-85 1183,85
  text "1" at -1152,100 h60.45
  text "2" at -962,100 h60.45
  text "3" at -762,100 h60.45
  text "4" at -560,100 h60.45
  text "5" at -370,100 h60.45
  text "6" at -170,100 h60.45
  text "7" at 30,100 h60.45
  text "8" at 220,100 h60.45
  text "9" at 420,100 h60.45
  text "10" at 602,100 h60.45
  text "11" at 797,100 h60.45
  text "12" at 992,100 h60.45
Mechanical 16:
  circle w6: c-887,0 r70
  circle w6: c-1084,0 r70
  circle w6: c-690,0 r70
  circle w6: c-295,0 r70
  circle w6: c-492,0 r70
  circle w6: c-98,0 r70
  circle w6: c295,0 r70
  circle w6: c98,0 r70
  circle w6: c492,0 r70
  circle w6: c887,0 r70
  circle w6: c690,0 r70
  circle w6: c1084,0 r70
  lines w6: -1139,-40 -1044,55 -1029,40 -1124,-55 -1139,-40 ; -942,-40 -847,55 -832,40 -927,-55 -942,-40 ; -745,-40 -650,55 -635,40 -730,-55 -745,-40 ; -547,-40 -452,55 -437,40 -532,-55 -547,-40 ; -350,-40 -255,55 -240,40 -335,-55 -350,-40 ; -153,-40 -58,55 -43,40 -138,-55 -153,-40 ; 43,-40 138,55 153,40 58,-55 43,-40 ; 240,-40 335,55 350,40 255,-55 240,-40 ; 437,-40 532,55 547,40 452,-55 437,-40 ; 635,-40 730,55 745,40 650,-55 635,-40 ; 832,-40 927,55 942,40 847,-55 832,-40 ; 1029,-40 1124,55 1139,40 1044,-55 1029,-40
  lines w24: -1124,-40 -1044,40 ; -927,-40 -847,40 ; -730,-40 -650,40 ; -532,-40 -452,40 ; -335,-40 -255,40 ; -138,-40 -58,40 ; 58,-40 138,40 ; 255,-40 335,40 ; 452,-40 532,40 ; 650,-40 730,40 ; 847,-40 927,40 ; 1044,-40 1124,40